# Altium schematic symbol library 测速.SchLib: 1 symbol
Pins are listed as number, name and electrical type; pins without a type are passive.

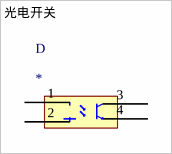
[diagram p0: symbol 光电开关]

## 光电开关
designator D
pins: 1, 2, 3, 4